# Altium schematic symbol library saw_filter_lib.SchLib: 3 symbols
Pins are listed as number, name and electrical type; pins without a type are passive.

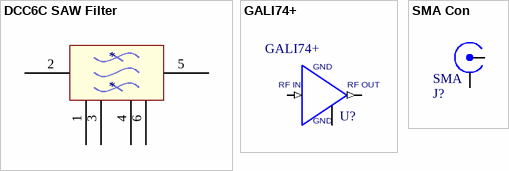
[diagram p0: symbols DCC6C SAW Filter to SMA Con]

## DCC6C SAW Filter
designator *
footprint DCC6C
pins: 1 IN, 2 IN, 3 IN, 4 IN, 5, 6 IN

## GALI74+
designator U?
Value: GALI74+
footprint DF782 (UofA Lib Pavel)
pins: 1 RF-IN (in), 2 GND (power), 3 RF-OUT (out)
text: RF IN; RF OUT

## SMA Con
designator J?  value SMA  (hidden comment: SMA Con)
Power Connector
footprint SMA_EDGE
pins: 1, 2